# Altium footprint library mypcblib.PcbLib: 90 footprints (part 6 of 6)
Each footprint in its own frame and in the unit in brackets; x right, y up, seen from the top. Pads: shape width x height; smd on the part's side, far side on the other; paste and mask are expansions set on the pad; w line width, h text height; cw(c..) or ccw(c..) is an arc to the next point about the centre after c.
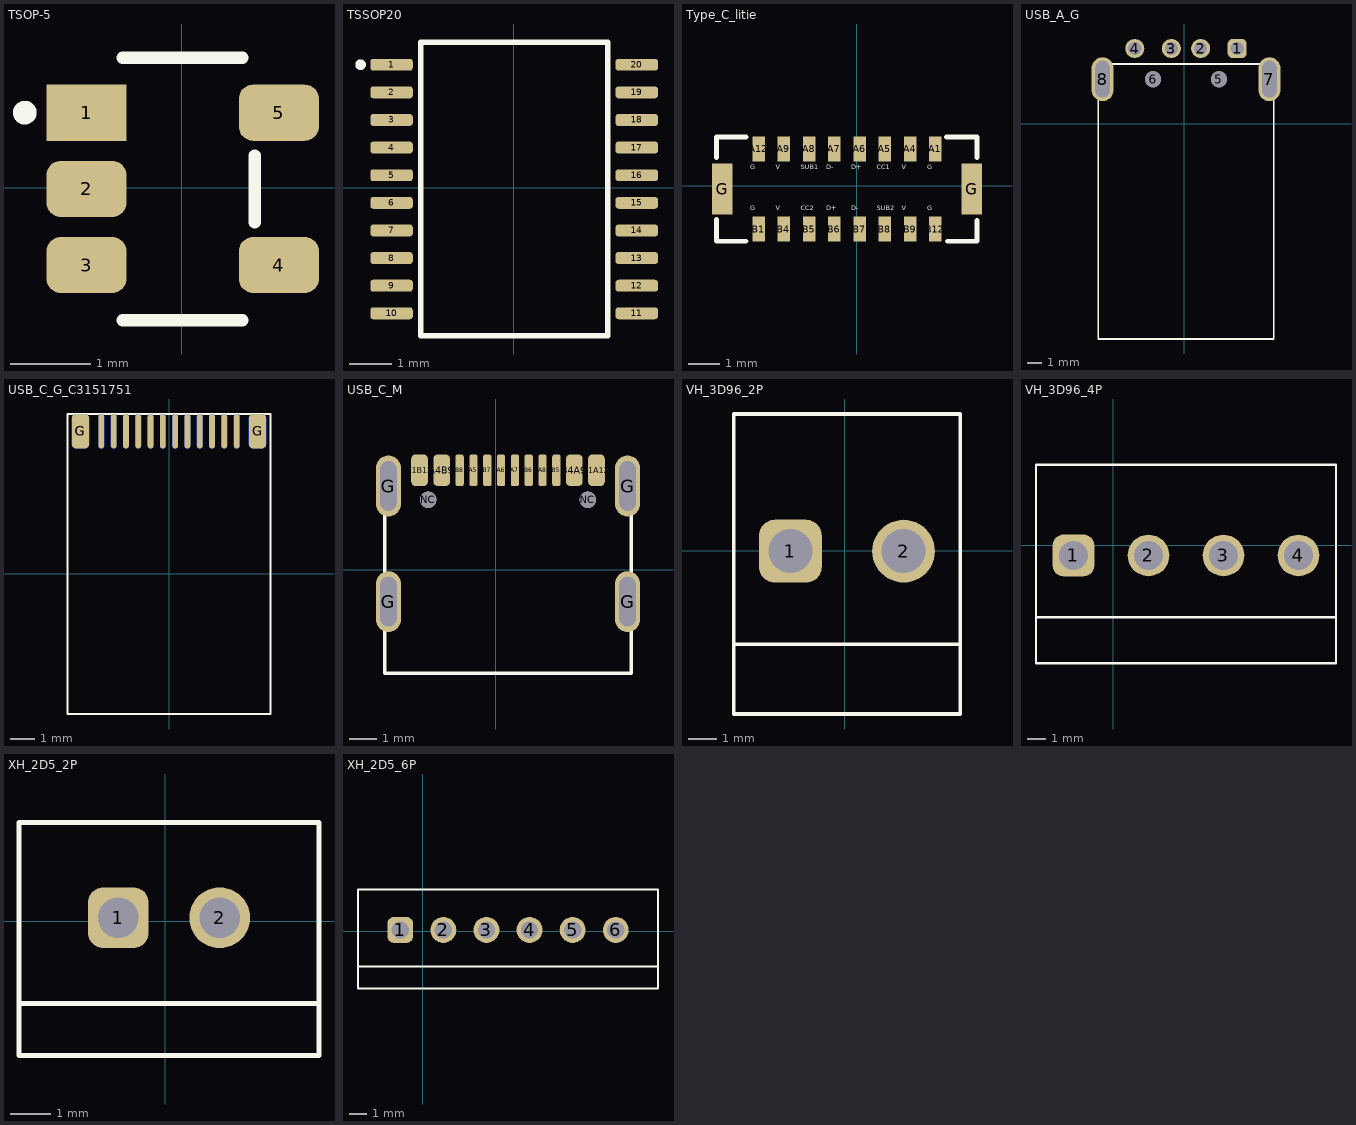
[diagram p5: the footprints below, top view; thin cyan lines are the x and y axes]

## TSOP-5 [mm] "NCS2003SN2T1G"
pads (5):
  rect 1x0.7 smd: 1(-1.185,0.939)
  rrect50% 1x0.7 smd: 2(-1.185,-0.011) 3(-1.185,-0.961) 4(1.215,-0.961) 5(1.215,0.939)
Top Overlay:
  circle w0.152: c-1.956,0.94 r0.072
  lines w0.152: -0.737,-1.651 0.762,-1.651 ; -0.737,1.626 0.762,1.626 ; 0.914,-0.432 0.914,0.406

## TSSOP20 [mm]
pads (20):
  rrect50% 1x0.28 smd: 1(-2.87,2.9) 2(-2.87,2.25) 3(-2.87,1.6) 4(-2.87,0.95) 5(-2.87,0.3) 6(-2.87,-0.35) 7(-2.87,-1) 8(-2.87,-1.65) 9(-2.87,-2.3) 10(-2.87,-2.95) 11(2.9,-2.95) 12(2.9,-2.3) 13(2.9,-1.65) 14(2.9,-1) 15(2.9,-0.35) 16(2.9,0.3) 17(2.9,0.95) 18(2.9,1.6) 19(2.9,2.25) 20(2.9,2.9)
Top Overlay:
  circle w0.127: c-3.6,2.9 r0.06
  lines w0.127: 2.217,-2.84 2.217,-3.06 2.217,-2.41 2.217,-2.19 ; 2.217,-1.76 2.217,-1.54 ; 2.217,-1.11 2.217,-0.89 ; 2.217,-0.46 2.217,-0.24 ; 2.217,0.19 2.217,0.41 ; 2.217,0.84 2.217,1.06 ; 2.217,1.49 2.217,1.71 ; 2.217,2.14 2.217,2.36 ; 2.217,2.79 2.217,3.01 ; -2.183,-3.475 -2.183,3.425 2.217,3.425 2.217,-3.475 -2.183,-3.475
3D body "User Library-TSSOP20-TP.STEP": height 1.2, standoff 0, extent -3.255,-3.32 3.295,3.28

## Type_C_litie [mm] "918-118A2021Y40002"
pads (18):
  rect 0.4x0.79 smd: A1(2.49,1.17) A4(1.69,1.17) A5(0.89,1.17) A6(0.09,1.17) A7(-0.71,1.17) A8(-1.51,1.17) A9(-2.31,1.17) A12(-3.11,1.17) B1(-3.11,-1.37) B4(-2.31,-1.37) B5(-1.51,-1.37) B6(-0.71,-1.37) B7(0.09,-1.37) B8(0.89,-1.37) B9(1.69,-1.37) B12(2.49,-1.37)
  rect 0.65x1.6 smd: G(-4.26,-0.1) G(3.64,-0.1)
Top Overlay:
  lines w0.152: -4.445,-1.067 -4.445,-1.753 -3.505,-1.753 ; -4.44,0.889 -4.44,1.547 -3.505,1.547 ; 2.845,1.549 3.81,1.549 3.81,0.889 ; 2.87,-1.753 3.81,-1.753 3.81,-1.092
  text "G" at -3.378,0.46 h0.25
  text "V" at -2.565,0.457 h0.25
  text "SUB1" at -1.778,0.46 h0.25
  text "D-" at -0.965,0.457 h0.25
  text "D+" at -0.178,0.457 h0.25
  text "CC1" at 0.635,0.46 h0.25
  text "V" at 1.422,0.457 h0.25
  text "G" at 2.235,0.46 h0.25
  text "G" at -3.378,-0.835 h0.25
  text "V" at -2.565,-0.838 h0.25
  text "CC2" at -1.778,-0.835 h0.25
  text "D+" at -0.965,-0.838 h0.25
  text "D-" at -0.178,-0.838 h0.25
  text "SUB2" at 0.635,-0.835 h0.25
  text "V" at 1.422,-0.838 h0.25
  text "G" at 2.235,-0.835 h0.25

## USB_A_G [mm]
pads (8):
  rrect50% 1.3x1.3 hole 0.9: 1(3.61,5.124)
  round 1.3 hole 0.9: 2(1.11,5.124) 3(-0.89,5.124) 4(-3.39,5.124)
  round 1.1 hole 1.1: 5(2.36,3.024) 6(-2.14,3.024)
  oval 1.5x3 hole 1 slot 2.5 at 90 deg: 7(5.81,3.028) 8(-5.59,3.028)
Top Overlay:
  lines w0.127: -5.89,-14.726 -5.89,4.074 6.11,4.074 6.11,-14.726 -5.89,-14.726

## USB_C_G_C3151751 [mm]
pads (28):
  oval 0.23x1.4 smd: A1(2.74,5.8) A2(2.24,5.8) A3(1.74,5.8) A4(1.24,5.8) A5(0.74,5.8) A6(0.24,5.8) A7(-0.26,5.8) A8(-0.76,5.8) A9(-1.26,5.8) A10(-1.76,5.8) A11(-2.26,5.8) A12(-2.76,5.8)
  oval 0.23x1.4 smd far side: B1(-2.76,5.8) B2(-2.26,5.8) B3(-1.76,5.8) B4(-1.26,5.8) B5(-0.76,5.8) B6(-0.26,5.8) B7(0.24,5.8) B8(0.74,5.8) B9(1.24,5.8) B10(1.74,5.8) B11(2.24,5.8) B12(2.74,5.8)
  rrect50% 0.7x1.4 smd: G(-3.61,5.8) G(3.59,5.8)
  rrect50% 0.7x1.4 smd far side: G(-3.61,5.8) G(3.59,5.8)
Top Overlay:
  lines w0.08: -4.135,-5.7 4.115,-5.7 4.115,6.5 -4.135,6.5 -4.135,-5.7

## USB_C_M [mm]
pads (18):
  rrect50% 0.6x1.14 smd: A1B12(-2.761,3.604) A4B9(-1.961,3.604) B1A12(3.639,3.604) B4A9(2.839,3.604)
  rrect50% 0.3x1.14 smd: A5(-0.811,3.604) A6(0.189,3.604) A7(0.689,3.604) A8(1.689,3.604) B5(2.188,3.604) B6(1.189,3.604) B7(-0.311,3.604) B8(-1.311,3.604)
  oval 0.9x2.2 hole 0.6 slot 1.8 at 90 deg: G(-3.886,-1.146) G(-3.886,3.034) G(4.764,-1.146) G(4.764,3.034)
  round 0.6 hole 0.6: NC(-2.451,2.534) NC(3.328,2.534)
Top Overlay:
  lines w0.127: -4.012,3.604 -4.012,-3.746 4.889,-3.746 4.889,3.604

## VH_3D96_2P [mm]
pads (2):
  rrect50% 2.2x2.2 hole 1.54: 1(-1.895,-0.013)
  round 2.2 hole 1.54: 2(2.065,-0.013)
Top Overlay:
  lines w0.127: -3.86,-3.27 4.03,-3.27 ; -3.875,-5.713 -3.875,4.787 4.045,4.787 4.045,-5.713 -3.875,-5.713

## VH_3D96_4P [mm]
pads (4):
  rrect50% 2.2x2.2 hole 1.54: 1(-2.1,-0.54)
  round 2.2 hole 1.54: 2(1.86,-0.54) 3(5.82,-0.54) 4(9.78,-0.54)
Top Overlay:
  lines w0.127: -4.065,-3.797 11.75,-3.8 ; -4.08,-6.24 11.76,-6.24 11.76,4.26 -4.08,4.26 -4.08,-6.24

## XH_2D5_2P [mm]
pads (2):
  rrect50% 1.5x1.5 hole 1: 1(-1.163,0.083)
  round 1.5 hole 1: 2(1.337,0.083)
Top Overlay:
  lines w0.127: -3.61,-2.03 3.78,-2.03 ; -3.613,-3.317 3.787,-3.317 3.787,2.433 -3.613,2.433 -3.613,-3.317

## XH_2D5_6P [mm]
pads (6):
  rrect50% 1.5x1.5 hole 1: 1(-1.313,0.083)
  round 1.5 hole 1: 2(1.187,0.083) 3(3.687,0.083) 4(6.187,0.083) 5(8.687,0.083) 6(11.187,0.083)
Top Overlay:
  lines w0.127: -3.75,-2.03 13.62,-2.03 ; 13.63,2.433 -3.763,2.433 -3.763,-3.317 13.637,-3.317 13.637,2.433